# Altium footprint library PcbLib.PcbLib: 14 footprints
Each footprint in its own frame and in the unit in brackets; x right, y up, seen from the top. Pads: shape width x height; smd on the part's side, far side on the other; paste and mask are expansions set on the pad; w line width, h text height; cw(c..) or ccw(c..) is an arc to the next point about the centre after c.
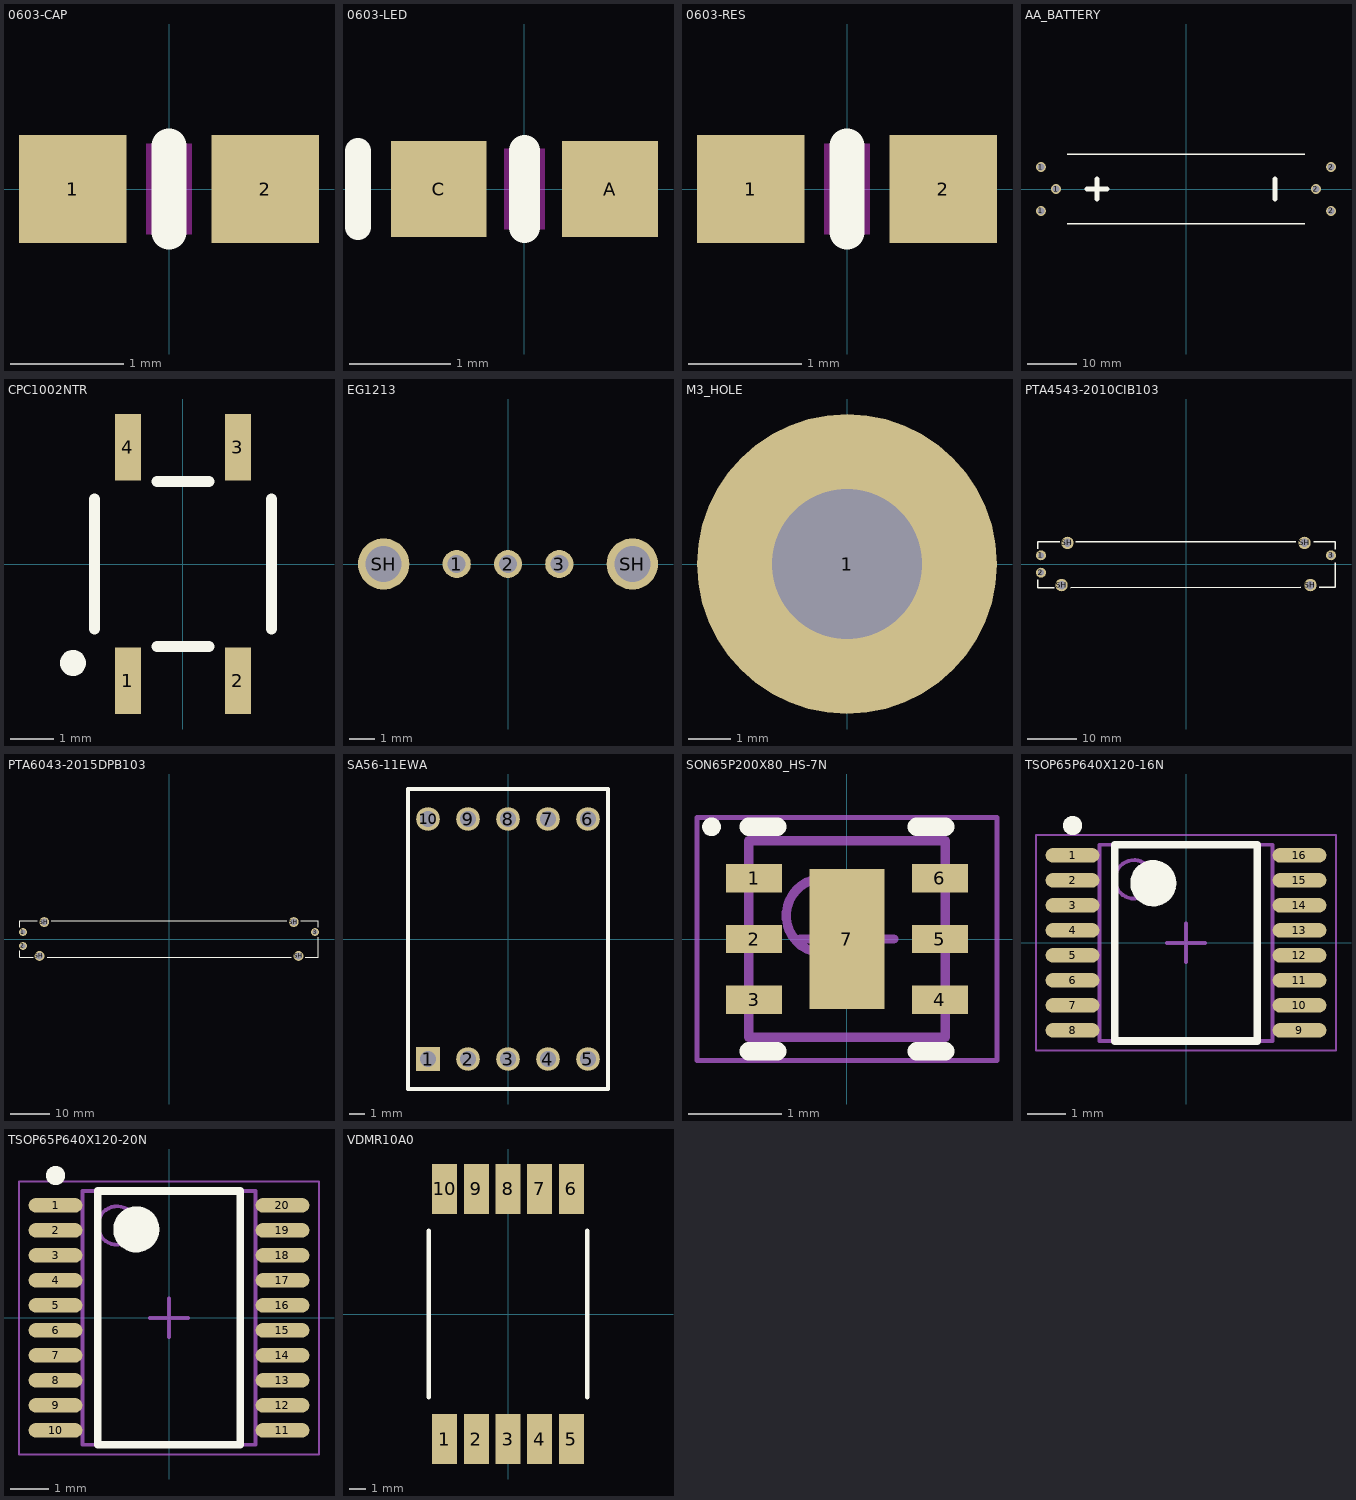
[diagram p0: the footprints below, top view; thin cyan lines are the x and y axes]

## 0603-CAP [mm]
pads (2):
  rect 0.95x0.95 smd: 1(-0.85,0) 2(0.85,0)
Top Layer keep-out:
  region: -0.2,0.4 0.2,0.4 0.2,-0.4 -0.2,-0.4
Top Overlay:
  lines w0.305: 0,-0.381 0,0.381
3D body "0603cap.step": height 0.79, standoff -0.01, extent -0.8,-0.4 0.8,0.4

## 0603-LED [mm]
pads (2):
  rect 0.95x0.95 smd: A(0.85,0) C(-0.85,0)
Top Layer keep-out:
  region: -0.2,0.4 0.2,0.4 0.2,-0.4 -0.2,-0.4
Top Overlay:
  lines w0.254: -1.651,-0.381 -1.651,0 -1.651,0.381
  lines w0.305: 0,-0.381 0,0 0,0.381
3D body: height 0.8, standoff -0.8, extent 0.051,0.813 0.051,0.813
3D body "0603led.step": height 0.68, standoff 0, extent -0.833,-0.368 0.817,0.357

## 0603-RES [mm]
pads (2):
  rect 0.95x0.95 smd: 1(-0.85,0) 2(0.85,0)
Top Layer keep-out:
  region: -0.2,0.4 0.2,0.4 0.2,-0.4 -0.2,-0.4
Top Overlay:
  lines w0.305: 0,-0.381 0,0.381
3D body "0603res.step": height 0.44, standoff -0.02, extent -0.8,-0.4 0.8,0.4

## AA_BATTERY [mm]
pads (6):
  round 2 hole 1.45: 1(-29.34,-4.445) 1(-29.34,4.445) 1(-26.29,0) 2(26.29,0) 2(29.34,-4.445) 2(29.34,4.445)
Top Overlay:
  lines w0.254: -24,-7 24,-7 ; -24,7 24,7
  lines w1: -20,0 -16,0 ; -18,-2 -18,2 ; 18,-2 18,2
3D body "User Library-KEYSTONE 9 Volt Leaf Spring Contact 590.STEP": height 12.22, standoff -3.81, extent 24.113,-4.565 32.564,4.565
3D body "User Library-Keystone596.STEP": height 11, standoff -3.81, extent -32.205,-5.09 -25.825,5.24
3D body "AA Duracell Body-Plain.STEP": height 14, standoff 0, extent -26.15,-7 24.1,7

## CPC1002NTR [mm] "SSR RELAY SPST-NO 700MA 0-60V"
pads (4):
  rect 0.6x1.54 smd: 1(-1.27,-2.695) 2(1.27,-2.695) 3(1.27,2.695) 4(-1.27,2.695)
Top Overlay:
  circle w0.3: c-2.54,-2.286 r0.15
  lines w0.254: -2.044,-1.5 -2.044,1.5 ; -0.6,-1.905 0.6,-1.905 ; -0.6,1.905 0.6,1.905 ; 2.044,-1.5 2.044,1.5
3D body "User Library-CPC1002N.STEP": height 2.18, standoff -0.01, extent -2.142,-3.124 2.15,3.074

## EG1213 [mm] "SWITCH SLIDE SPDT 200MA 30V"
pads (5):
  round 1.1 hole 0.7: 1(-2,0) 2(0,0) 3(2,0)
  round 2 hole 1.4: SH(-4.85,0) SH(4.85,0)
3D body "EG1213.stp": height 5, standoff -2.9, extent -5,-6.9 5,1.9

## M3_HOLE [mm]
pads (1):
  round 7 hole 3.5: 1(0,0)

## PTA4543-2010CIB103 [mm] "SLIDE POT 10K OHM 0.25W TOP 45MM"
pads (7):
  round 2 hole 1.2: 1(-29.25,1.75) 2(-29.25,-1.75) 3(29.25,1.75)
  round 2.5 hole 1.7: SH(-25.1,-4.25) SH(-23.9,4.25) SH(23.9,4.25) SH(25.1,-4.25)
Top Overlay:
  lines w0.254: -29.9,-3.2 -29.9,-4.8 -26.6,-4.8 ; -29.9,3.1 -29.9,4.5 -25.5,4.5 ; -23.2,-4.8 23.1,-4.7 ; -22.2,4.5 22.1,4.5 ; 25.8,4.5 30.1,4.5 30.1,3 ; 26.9,-4.7 30.1,-4.7 30.1,0.3
3D body "PTA4543.stp": height 17.09, standoff -4.96, extent -29.9,-8.373 30.1,6.173

## PTA6043-2015DPB103 [mm] "SLIDE POT 10K OHM 0.25W TOP 60MM"
pads (7):
  round 2 hole 1.2: 1(-36.75,1.75) 2(-36.75,-1.75) 3(36.75,1.75)
  round 2.5 hole 1.7: SH(-32.6,-4.25) SH(-31.4,4.25) SH(31.4,4.25) SH(32.6,-4.25)
Top Overlay:
  lines w0.254: -37.5,-3 -37.5,-4.6 -34.2,-4.6 ; -37.5,3 -37.5,4.6 -33.1,4.6 ; -30.7,-4.6 30.8,-4.6 ; -29.6,4.6 29.6,4.6 ; 33.2,4.6 37.5,4.6 37.5,3 ; 34.3,-4.6 37.5,-4.6 37.5,0.4
3D body "pta6043-2x15dpxxxx.stp": height 21.5, standoff -4.69, extent -37.55,-4.65 37.55,4.65

## SA56-11EWA [mm] "DISPLAY 7SEG 0.56\" SGL RED 10DIP"
pads (10):
  rect 1.5x1.5 hole 1: 1(-5.08,-7.62)
  round 1.5 hole 1: 2(-2.54,-7.62) 3(0,-7.62) 4(2.54,-7.62) 5(5.08,-7.62) 6(5.08,7.62) 7(2.54,7.62) 8(0,7.62) 9(-2.54,7.62) 10(-5.08,7.62)
Top Overlay:
  lines w0.254: -6.35,-9.525 -6.35,9.525 6.35,9.525 6.35,-9.525 -6.35,-9.525
3D body "Kingsbright SA56-11EWA.stp": height 8, standoff -4, extent -6.35,-9.525 6.35,9.525

## SON65P200X80_HS-7N [mm] "SON, 6-Leads, Body 2.00x2.00mm, Pitch 0.65mm, Thermal Pad 1.60x0.89mm, IPC Medium Density"
height 0.8
pads (7):
  rect 0.6x0.3 smd mask+0.05: 1(-0.995,0.65) 2(-0.995,0) 3(-0.995,-0.65) 4(0.995,-0.65) 5(0.995,0) 6(0.995,0.65)
  rect 0.8x1.5 smd mask+0.05: 7(0,0)
Top Overlay:
  circle w0.1: c-1.45,1.2 r0.05
  lines w0.2: -1.05,-1.2 -0.745,-1.2 ; -1.05,1.2 -0.745,1.2 ; 0.745,-1.2 1.05,-1.2 ; 0.745,1.2 1.05,1.2
Mechanical 13:
  circle w0.1: c-0.25,0.25 r0.4
  lines w0.1: -1.05,-1.05 -1.05,1.05 1.05,1.05 1.05,-1.05 -1.05,-1.05
Mechanical 15:
  lines w0.05: -1.605,-1.3 -1.605,1.3 1.605,1.3 1.605,-1.3 -1.605,-1.3
  lines w0.1: -0.5,0 0.5,0 ; 0,-0.5 0,0.5
3D body "SON65P200X80_HS-7N.step": height 0.8, standoff 0, extent -1.13,-1.05 1.13,1.05

## TSOP65P640X120-16N [mm] "TSOP, 16-Leads, Body 5.00x4.40mm, Pitch 0.65mm, IPC Medium Density"
height 1.2
pads (16):
  oval 1.4x0.375 smd mask+0.05: 1(-2.95,2.275) 2(-2.95,1.625) 3(-2.95,0.975) 4(-2.95,0.325) 5(-2.95,-0.325) 6(-2.95,-0.975) 7(-2.95,-1.625) 8(-2.95,-2.275) 9(2.95,-2.275) 10(2.95,-1.625) 11(2.95,-0.975) 12(2.95,-0.325) 13(2.95,0.325) 14(2.95,0.975) 15(2.95,1.625) 16(2.95,2.275)
Top Overlay:
  circle w0.25: c-2.95,3.05 r0.125
  circle w0.6: c-0.85,1.55 r0.3
  lines w0.2: -1.85,-2.55 -1.85,2.55 1.85,2.55 1.85,-2.55 -1.85,-2.55
Mechanical 13:
  circle w0.1: c-1.35,1.65 r0.5
  lines w0.1: -2.25,-2.55 -2.25,2.55 2.25,2.55 2.25,-2.55 -2.25,-2.55
Mechanical 15:
  lines w0.05: -3.9,-2.8 -3.9,2.8 3.9,2.8 3.9,-2.8 -3.9,-2.8
  lines w0.1: -0.5,0 0.5,0 ; 0,-0.5 0,0.5
3D body "TSOP65P640X120-16N.step": height 1.2, standoff 0, extent -3.2,-2.55 3.2,2.55

## TSOP65P640X120-20N [mm] "TSOP, 20-Leads, Body 6.50x4.40mm, Pitch 0.65mm, IPC Medium Density"
height 1.2
pads (20):
  oval 1.4x0.375 smd mask+0.05: 1(-2.95,2.925) 2(-2.95,2.275) 3(-2.95,1.625) 4(-2.95,0.975) 5(-2.95,0.325) 6(-2.95,-0.325) 7(-2.95,-0.975) 8(-2.95,-1.625) 9(-2.95,-2.275) 10(-2.95,-2.925) 11(2.95,-2.925) 12(2.95,-2.275) 13(2.95,-1.625) 14(2.95,-0.975) 15(2.95,-0.325) 16(2.95,0.325) 17(2.95,0.975) 18(2.95,1.625) 19(2.95,2.275) 20(2.95,2.925)
Top Overlay:
  circle w0.6: c-0.85,2.3 r0.3
  circle w0.25: c-2.95,3.7 r0.125
  lines w0.2: -1.85,-3.3 1.85,-3.3 1.85,3.3 -1.85,3.3 -1.85,-3.3
Mechanical 13:
  circle w0.1: c-1.35,2.4 r0.5
  lines w0.1: -2.25,-3.3 2.25,-3.3 2.25,3.3 -2.25,3.3 -2.25,-3.3
Mechanical 15:
  lines w0.05: -3.9,-3.55 3.9,-3.55 3.9,3.55 -3.9,3.55 -3.9,-3.55
  lines w0.1: -0.5,0 0.5,0 ; 0,-0.5 0,0.5
3D body "TSOP65P640X120-20N.step": height 1.2, standoff 0, extent -3.2,-3.3 3.2,3.3

## VDMR10A0 [mm] "DISPLAY 7SEG 0.39\" SGL RED 10SMD"
pads (10):
  rect 1.5x3 smd: 1(-3.8,-7.5) 2(-1.9,-7.5) 3(0,-7.5) 4(1.9,-7.5) 5(3.8,-7.5) 6(3.8,7.5) 7(1.9,7.5) 8(0,7.5) 9(-1.9,7.5) 10(-3.8,7.5)
Top Overlay:
  lines w0.254: -4.75,-5 -4.75,5 ; 4.75,-5 4.75,5
3D body "VDMx10x0.stp": height 3.84, standoff 0, extent -4.9,-7.5 4.9,7.5